# EAGLE library part PCF2129AT (library Magister-Libraries)
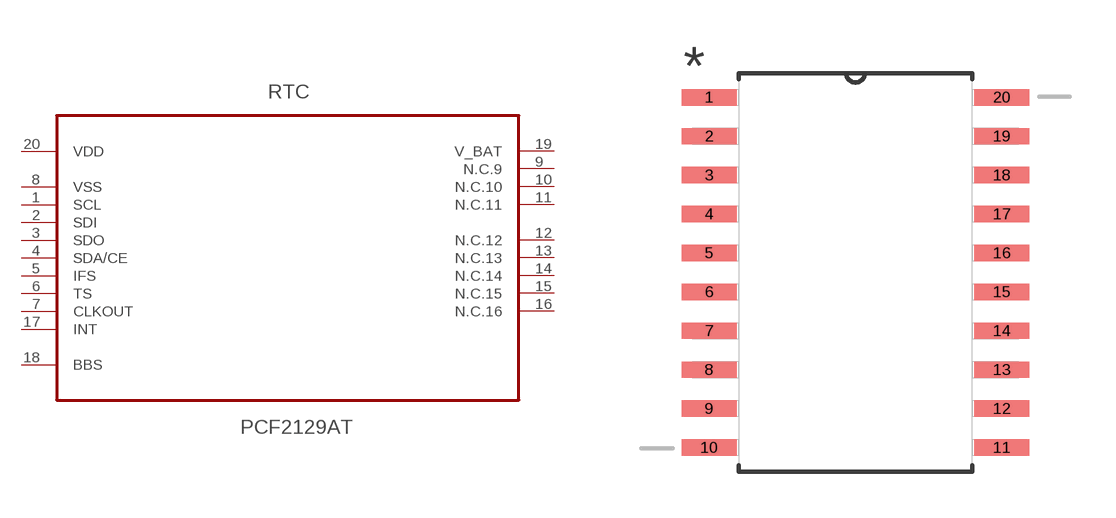
[diagram p2: symbol with the pads of PCF2129AT; footprint PCF2129AT]

Designator prefix -

## PCF2129AT  [PCF2129AT]
1  SCL
2  SDI  in
3  SDO  out
4  SDA/CE
5  IFS  in
6  TS  in
7  CLKOUT  out
8  VSS
9  N.C.9  nc
10  N.C.10  nc
11  N.C.11  nc
12  N.C.12  nc
13  N.C.13  nc
14  N.C.14  nc
15  N.C.15  nc
16  N.C.16  nc
17  INT  out
18  BBS
19  V_BAT
20  VDD

## Footprint PCF2129AT (pad centres in mm)
smd 1.803 x 0.533: 1 -4.775,5.715; 2 -4.775,4.445; 3 -4.775,3.175; 4 -4.775,1.905; 5 -4.775,0.635; 6 -4.775,-0.635; 7 -4.775,-1.905; 8 -4.775,-3.175; 9 -4.775,-4.445; 10 -4.775,-5.715; 11 4.775,-5.715; 12 4.775,-4.445; 13 4.775,-3.175; 14 4.775,-1.905; 15 4.775,-0.635; 16 4.775,0.635; 17 4.775,1.905; 18 4.775,3.175; 19 4.775,4.445; 20 4.775,5.715